# Altium integrated library TSW-108-07-L-S.IntLib: 1 symbol
Pins are listed as number, name and electrical type; pins without a type are passive.

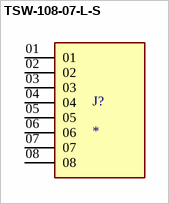
[diagram p0: symbol TSW-108-07-L-S]

## TSW-108-07-L-S
designator J?
MF: Samtec Inc.; MP: TSW-108-07-L-S; Availability: Unavailable; Price: None; Package: None; Value: *
footprint SAMTEC_TSW-108-07-L-S
pins: 01, 02, 03, 04, 05, 06, 07, 08